# Altium footprint library cypress.PCBLIB: 24 footprints (part 1 of 2)
Each footprint in its own frame and in the unit in brackets; x right, y up, seen from the top. Pads: shape width x height; smd on the part's side, far side on the other; paste and mask are expansions set on the pad; w line width, h text height; cw(c..) or ccw(c..) is an arc to the next point about the centre after c.
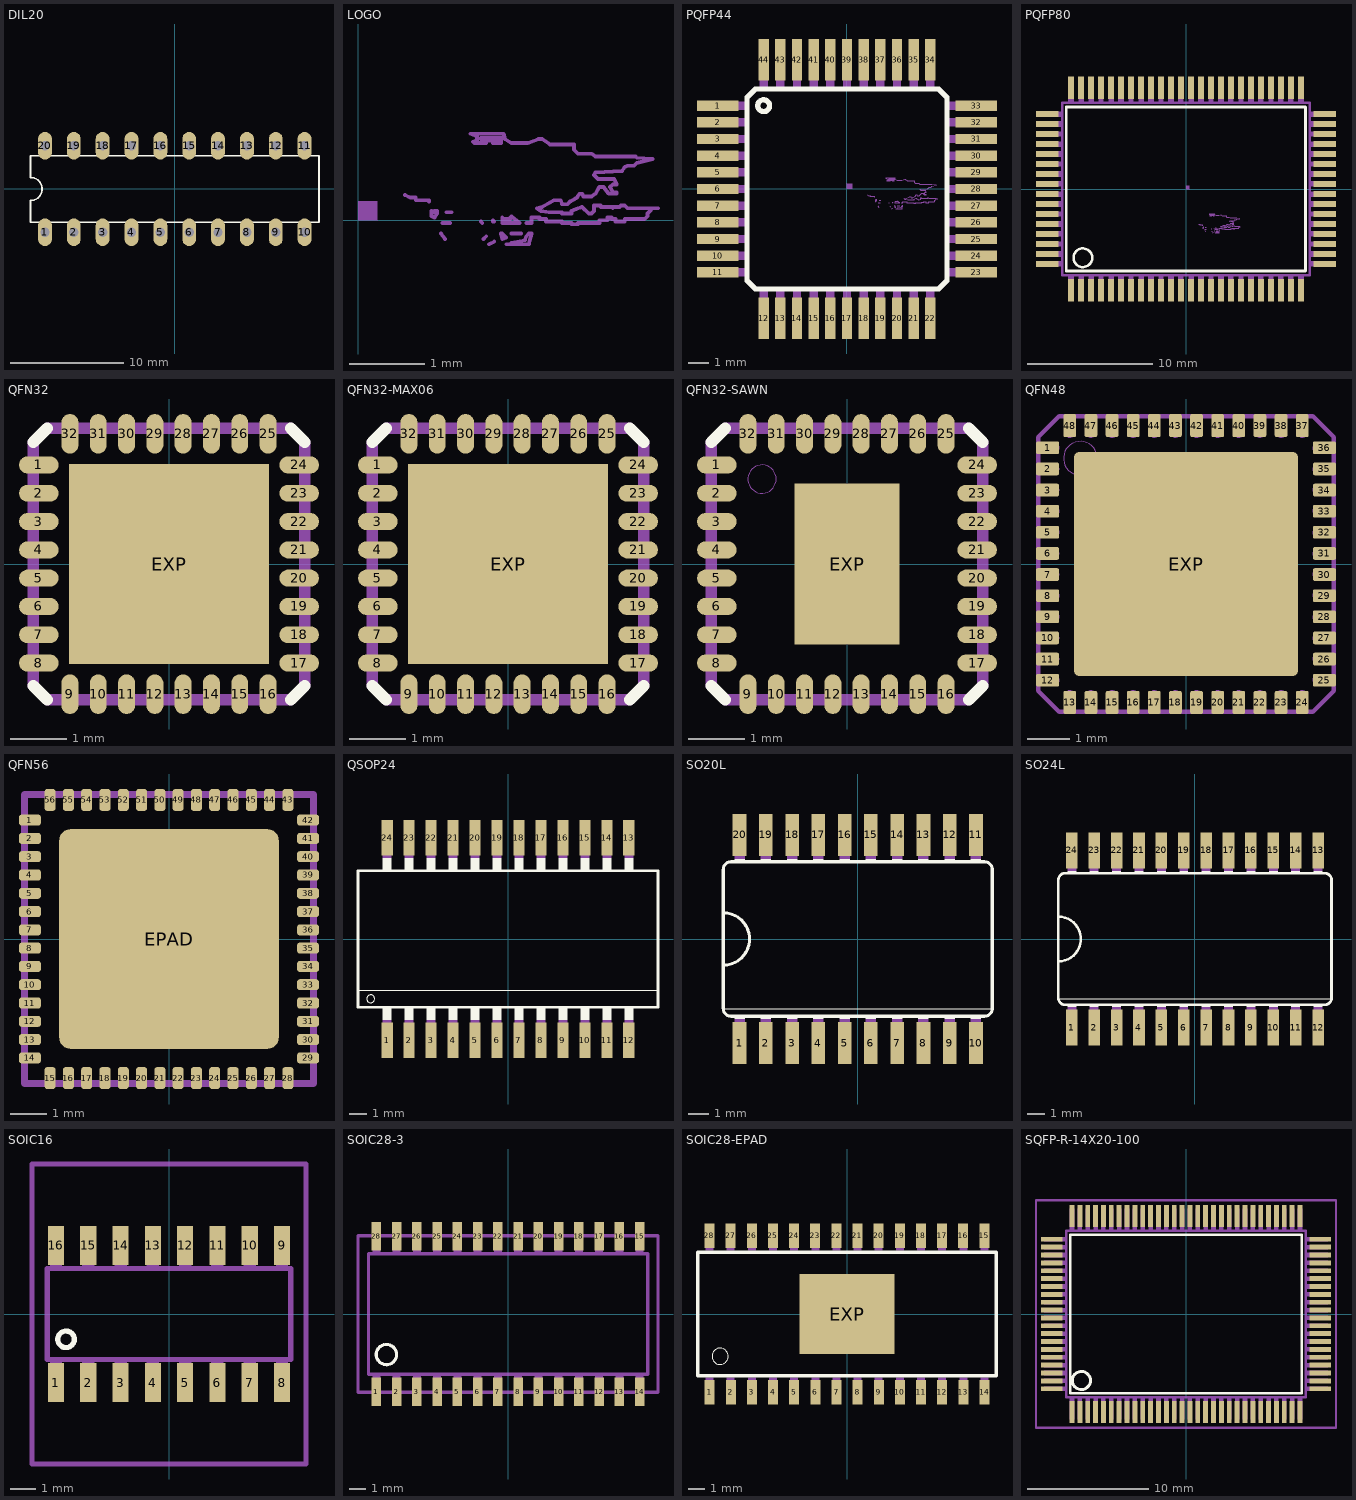
[diagram p0: the footprints below, top view; thin cyan lines are the x and y axes]

## DIL20 [mil]
pads (20):
  oval 48x96 hole 32: 1(-450,-150) 2(-350,-150) 3(-250,-150) 4(-150,-150) 5(-50,-150) 6(50,-150) 7(150,-150) 8(250,-150) 9(350,-150) 10(450,-150) 11(450,150) 12(350,150) 13(250,150) 14(150,150) 15(50,150) 16(-50,150) 17(-150,150) 18(-250,150) 19(-350,150) 20(-450,150)
Top Overlay:
  lines w6: -500,-115 500,-115 500,115 -500,115 -500,40 cw(c-500,0) -500,-40 -500,-115

## LOGO [mm]
Mechanical 16:
  drawing of 164 lines, arcs and shapes, not listed

## PQFP44 [mm]
pads (44):
  rect 2x0.5 smd: 1(-6.2,4) 2(-6.2,3.2) 3(-6.2,2.4) 4(-6.2,1.6) 5(-6.2,0.8) 6(-6.2,0) 7(-6.2,-0.8) 8(-6.2,-1.6) 9(-6.2,-2.4) 10(-6.2,-3.2) 11(-6.2,-4) 23(6.2,-4) 24(6.2,-3.2) 25(6.2,-2.4) 26(6.2,-1.6) 27(6.2,-0.8) 28(6.2,0) 29(6.2,0.8) 30(6.2,1.6) 31(6.2,2.4) 32(6.2,3.2) 33(6.2,4)
  rect 0.5x2 smd: 12(-4,-6.2) 13(-3.2,-6.2) 14(-2.4,-6.2) 15(-1.6,-6.2) 16(-0.8,-6.2) 17(0,-6.2) 18(0.8,-6.2) 19(1.6,-6.2) 20(2.4,-6.2) 21(3.2,-6.2) 22(4,-6.2) 34(4,6.2) 35(3.2,6.2) 36(2.4,6.2) 37(1.6,6.2) 38(0.8,6.2) 39(0,6.2) 40(-0.8,6.2) 41(-1.6,6.2) 42(-2.4,6.2) 43(-3.2,6.2) 44(-4,6.2)
Top Overlay:
  circle w0.254: c-4,4 r0.283
  lines w0.254: -4.8,-4.4 -4.4,-4.8 4.4,-4.8 4.8,-4.4 4.8,4.4 4.4,4.8 -4.4,4.8 -4.8,4.4 -4.8,-4.4
Mechanical 16:
  drawing of 208 lines, arcs and shapes, not listed

## PQFP80 [mm]
pads (80):
  rect 0.5x1.8 smd: 1(-9.2,-8.1) 2(-8.4,-8.1) 3(-7.6,-8.1) 4(-6.8,-8.1) 5(-6,-8.1) 6(-5.2,-8.1) 7(-4.4,-8.1) 8(-3.6,-8.1) 9(-2.8,-8.1) 10(-2,-8.1) 11(-1.2,-8.1) 12(-0.4,-8.1) 13(0.4,-8.1) 14(1.2,-8.1) 15(2,-8.1) 16(2.8,-8.1) 17(3.6,-8.1) 18(4.4,-8.1) 19(5.2,-8.1) 20(6,-8.1) 21(6.8,-8.1) 22(7.6,-8.1) 23(8.4,-8.1) 24(9.2,-8.1) 41(9.2,8.1) 42(8.4,8.1) 43(7.6,8.1) 44(6.8,8.1) 45(6,8.1) 46(5.2,8.1) 47(4.4,8.1) 48(3.6,8.1) 49(2.8,8.1) 50(2,8.1) 51(1.2,8.1) 52(0.4,8.1) 53(-0.4,8.1) 54(-1.2,8.1) 55(-2,8.1) 56(-2.8,8.1) 57(-3.6,8.1) 58(-4.4,8.1) 59(-5.2,8.1) 60(-6,8.1) 61(-6.8,8.1) 62(-7.6,8.1) 63(-8.4,8.1) 64(-9.2,8.1)
  rect 1.8x0.5 smd: 25(11.1,-6) 26(11.1,-5.2) 27(11.1,-4.4) 28(11.1,-3.6) 29(11.1,-2.8) 30(11.1,-2) 31(11.1,-1.2) 32(11.1,-0.4) 33(11.1,0.4) 34(11.1,1.2) 35(11.1,2) 36(11.1,2.8) 37(11.1,3.6) 38(11.1,4.4) 39(11.1,5.2) 40(11.1,6) 65(-11.1,6) 66(-11.1,5.2) 67(-11.1,4.4) 68(-11.1,3.6) 69(-11.1,2.8) 70(-11.1,2) 71(-11.1,1.2) 72(-11.1,0.4) 73(-11.1,-0.4) 74(-11.1,-1.2) 75(-11.1,-2) 76(-11.1,-2.8) 77(-11.1,-3.6) 78(-11.1,-4.4) 79(-11.1,-5.2) 80(-11.1,-6)
Top Overlay:
  circle w0.203: c-8.25,-5.5 r0.75
  lines w0.203: -9.57,-6.56 9.56,-6.56 9.56,6.56 -9.57,6.56 -9.57,-6.56
Mechanical 16:
  drawing of 248 lines, arcs and shapes, not listed

## QFN32 [mm]
pads (33):
  rrect100% 0.7x0.3 smd: 1(-2.3,1.75) 2(-2.3,1.25) 3(-2.3,0.75) 4(-2.3,0.25) 5(-2.3,-0.25) 6(-2.3,-0.75) 7(-2.3,-1.25) 8(-2.3,-1.75) 17(2.3,-1.75) 18(2.3,-1.25) 19(2.3,-0.75) 20(2.3,-0.25) 21(2.3,0.25) 22(2.3,0.75) 23(2.3,1.25) 24(2.3,1.75)
  rrect100% 0.3x0.7 smd: 9(-1.75,-2.3) 10(-1.25,-2.3) 11(-0.75,-2.3) 12(-0.25,-2.3) 13(0.25,-2.3) 14(0.75,-2.3) 15(1.25,-2.3) 16(1.75,-2.3) 25(1.75,2.3) 26(1.25,2.3) 27(0.75,2.3) 28(0.25,2.3) 29(-0.25,2.3) 30(-0.75,2.3) 31(-1.25,2.3) 32(-1.75,2.3)
  rect 3.53x3.53 smd: EXP(0,0)
Top Overlay:
  lines w0.203: -2.4,-2.15 -2.15,-2.4 ; -2.4,2.15 -2.15,2.4 ; 2.15,-2.4 2.4,-2.15 ; 2.15,2.4 2.4,2.15
Top Paste:
  rectangle: -1.65,-1.65 1.65,1.65
  lines w0.25: -2.5,-1.75 -2.1,-1.75 ; -2.5,-1.25 -2.1,-1.25 ; -2.5,-0.75 -2.1,-0.75 ; -2.5,-0.25 -2.1,-0.25 ; -2.5,0.25 -2.1,0.25 ; -2.5,0.75 -2.1,0.75 ; -2.5,1.25 -2.1,1.25 ; -2.5,1.75 -2.1,1.75 ; -1.75,-2.5 -1.75,-2.1 ; -1.75,2.1 -1.75,2.5 ; -1.25,-2.5 -1.25,-2.1 ; -1.25,2.1 -1.25,2.5 ; -0.75,-2.5 -0.75,-2.1 ; -0.75,2.1 -0.75,2.5 ; -0.25,-2.5 -0.25,-2.1 ; -0.25,2.1 -0.25,2.5 ; 0.25,-2.5 0.25,-2.1 ; 0.25,2.1 0.25,2.5 ; 0.75,-2.5 0.75,-2.1 ; 0.75,2.1 0.75,2.5 ; 1.25,-2.5 1.25,-2.1 ; 1.25,2.1 1.25,2.5 ; 1.75,-2.5 1.75,-2.1 ; 1.75,2.1 1.75,2.5 ; 2.1,-1.75 2.5,-1.75 ; 2.1,-1.25 2.5,-1.25 ; 2.1,-0.75 2.5,-0.75 ; 2.1,-0.25 2.5,-0.25 ; 2.1,0.25 2.5,0.25 ; 2.1,0.75 2.5,0.75 ; 2.1,1.25 2.5,1.25 ; 2.1,1.75 2.5,1.75
Top Solder:
  rectangle: -1.8,-1.8 1.8,1.8
  lines w0.4: -2.5,-1.75 -2.1,-1.75 ; -2.5,-1.25 -2.1,-1.25 ; -2.5,-0.75 -2.1,-0.75 ; -2.5,-0.25 -2.1,-0.25 ; -2.5,0.25 -2.1,0.25 ; -2.5,0.75 -2.1,0.75 ; -2.5,1.25 -2.1,1.25 ; -2.5,1.75 -2.1,1.75 ; -1.75,-2.5 -1.75,-2.1 ; -1.75,2.1 -1.75,2.5 ; -1.25,-2.5 -1.25,-2.1 ; -1.25,2.1 -1.25,2.5 ; -0.75,-2.5 -0.75,-2.1 ; -0.75,2.1 -0.75,2.5 ; -0.25,-2.5 -0.25,-2.1 ; -0.25,2.1 -0.25,2.5 ; 0.25,-2.5 0.25,-2.1 ; 0.25,2.1 0.25,2.5 ; 0.75,-2.5 0.75,-2.1 ; 0.75,2.1 0.75,2.5 ; 1.25,-2.5 1.25,-2.1 ; 1.25,2.1 1.25,2.5 ; 1.75,-2.5 1.75,-2.1 ; 1.75,2.1 1.75,2.5 ; 2.1,-1.75 2.5,-1.75 ; 2.1,-1.25 2.5,-1.25 ; 2.1,-0.75 2.5,-0.75 ; 2.1,-0.25 2.5,-0.25 ; 2.1,0.25 2.5,0.25 ; 2.1,0.75 2.5,0.75 ; 2.1,1.25 2.5,1.25 ; 2.1,1.75 2.5,1.75
Mechanical 16:
  circle w0: c-1.5,1.5 r0.25
  lines w0.203: -2.4,-2.15 -2.4,2.15 ; -2.15,-2.4 2.15,-2.4 ; -2.15,2.4 2.15,2.4 ; 2.4,-2.15 2.4,2.15
  lines w0.23: -2.325,-1.75 -2.1,-1.75 ; -2.325,-1.25 -2.1,-1.25 ; -2.325,-0.75 -2.1,-0.75 ; -2.325,-0.25 -2.1,-0.25 ; -2.325,0.25 -2.1,0.25 ; -2.325,0.75 -2.1,0.75 ; -2.325,1.25 -2.1,1.25 ; -2.325,1.75 -2.1,1.75 ; -1.75,-2.325 -1.75,-2.1 ; -1.75,2.1 -1.75,2.325 ; -1.25,-2.325 -1.25,-2.1 ; -1.25,2.1 -1.25,2.325 ; -0.75,-2.325 -0.75,-2.1 ; -0.75,2.1 -0.75,2.325 ; -0.25,-2.325 -0.25,-2.1 ; -0.25,2.1 -0.25,2.325 ; 0.25,-2.325 0.25,-2.1 ; 0.25,2.1 0.25,2.325 ; 0.75,-2.325 0.75,-2.1 ; 0.75,2.1 0.75,2.325 ; 1.25,-2.325 1.25,-2.1 ; 1.25,2.1 1.25,2.325 ; 1.75,-2.325 1.75,-2.1 ; 1.75,2.1 1.75,2.325 ; 2.1,-1.75 2.325,-1.75 ; 2.1,-1.25 2.325,-1.25 ; 2.1,-0.75 2.325,-0.75 ; 2.1,-0.25 2.325,-0.25 ; 2.1,0.25 2.325,0.25 ; 2.1,0.75 2.325,0.75 ; 2.1,1.25 2.325,1.25 ; 2.1,1.75 2.325,1.75

## QFN32-MAX06 [mm]
pads (33):
  rrect100% 0.7x0.3 smd: 1(-2.3,1.75) 2(-2.3,1.25) 3(-2.3,0.75) 4(-2.3,0.25) 5(-2.3,-0.25) 6(-2.3,-0.75) 7(-2.3,-1.25) 8(-2.3,-1.75) 17(2.3,-1.75) 18(2.3,-1.25) 19(2.3,-0.75) 20(2.3,-0.25) 21(2.3,0.25) 22(2.3,0.75) 23(2.3,1.25) 24(2.3,1.75)
  rrect100% 0.3x0.7 smd: 9(-1.75,-2.3) 10(-1.25,-2.3) 11(-0.75,-2.3) 12(-0.25,-2.3) 13(0.25,-2.3) 14(0.75,-2.3) 15(1.25,-2.3) 16(1.75,-2.3) 25(1.75,2.3) 26(1.25,2.3) 27(0.75,2.3) 28(0.25,2.3) 29(-0.25,2.3) 30(-0.75,2.3) 31(-1.25,2.3) 32(-1.75,2.3)
  rect 3.53x3.53 smd: EXP(0,0)
Top Overlay:
  lines w0.203: -2.4,-2.15 -2.15,-2.4 ; -2.4,2.15 -2.15,2.4 ; 2.15,-2.4 2.4,-2.15 ; 2.15,2.4 2.4,2.15
Top Paste:
  region: 0,0 0.254,0 0.254,0.254 0,0.254
  lines w0.1: -1,-0.6 -1,-1.3 ; -1,-0.25 -1,0.25 ; -1,0.55 -1,0.9 ; -0.975,1.075 -0.95,1.1 ; -0.95,-1.65 -0.95,-1.55 -0.85,-1.65 ; -0.925,1.4 -0.9,1.65 ; -0.25,-1.7 -0.55,-1.7 ; -0.15,1.7 -0.7,1.7 ; 0.25,-1.7 0.55,-1.7 ; 0.25,1.7 0.55,1.7 ; 0.85,-1.65 0.95,-1.55 0.95,-1.65 ; 0.85,1.65 0.95,1.55 0.95,1.65 ; 1,-0.6 1,-1.3 ; 1,-0.25 1,0.25 ; 1,0.55 1,1.3 ; -1,-1.3 -1,-1.7 -0.55,-1.7 ; -1,-1.3 ccw(c-0.575,-1.275) -0.55,-1.7 ; -1,0.9 cw(c-0.712,0.881) -0.9,1.1 ccw(c-1.475,1.375) -0.85,1.5 cw(c-0.675,1.525) -0.7,1.7 ; -1,0.9 -1,1.1 ccw(c-1,1.25) -1,1.4 -1,1.7 -0.7,1.7 ; 0.55,-1.7 1,-1.7 1,-1.3 ; 0.55,-1.7 ccw(c0.575,-1.275) 1,-1.3 ; 0.55,1.7 1,1.7 1,1.3 ; 0.55,1.7 cw(c0.575,1.275) 1,1.3 ; -0.8,-1.25 ccw(c-0.55,-1.25) -0.55,-1.5 0.55,-1.5 ccw(c0.55,-1.25) 0.8,-1.25 0.8,1.25 ccw(c0.55,1.25) 0.55,1.5 -0.5,1.5 ccw(c-0.5,1.35) -0.65,1.35 cw(c-1.413,1.306) -0.8,0.85 -0.8,-1.25
  lines w0.25: -2.5,-1.75 -2.1,-1.75 ; -2.5,-1.25 -2.1,-1.25 ; -2.5,-0.75 -2.1,-0.75 ; -2.5,-0.25 -2.1,-0.25 ; -2.5,0.25 -2.1,0.25 ; -2.5,0.75 -2.1,0.75 ; -2.5,1.25 -2.1,1.25 ; -2.5,1.75 -2.1,1.75 ; -1.75,-2.5 -1.75,-2.1 ; -1.75,2.1 -1.75,2.5 ; -1.25,-2.5 -1.25,-2.1 ; -1.25,2.1 -1.25,2.5 ; -0.75,-2.5 -0.75,-2.1 ; -0.75,2.1 -0.75,2.5 ; -0.25,-2.5 -0.25,-2.1 ; -0.25,2.1 -0.25,2.5 ; 0.25,-2.5 0.25,-2.1 ; 0.25,2.1 0.25,2.5 ; 0.75,-2.5 0.75,-2.1 ; 0.75,2.1 0.75,2.5 ; 1.25,-2.5 1.25,-2.1 ; 1.25,2.1 1.25,2.5 ; 1.75,-2.5 1.75,-2.1 ; 1.75,2.1 1.75,2.5 ; 2.1,-1.75 2.5,-1.75 ; 2.1,-1.25 2.5,-1.25 ; 2.1,-0.75 2.5,-0.75 ; 2.1,-0.25 2.5,-0.25 ; 2.1,0.25 2.5,0.25 ; 2.1,0.75 2.5,0.75 ; 2.1,1.25 2.5,1.25 ; 2.1,1.75 2.5,1.75
Top Solder:
  rectangle: -1.1,-1.8 1.1,1.8
  lines w0.4: -2.5,-1.75 -2.1,-1.75 ; -2.5,-1.25 -2.1,-1.25 ; -2.5,-0.75 -2.1,-0.75 ; -2.5,-0.25 -2.1,-0.25 ; -2.5,0.25 -2.1,0.25 ; -2.5,0.75 -2.1,0.75 ; -2.5,1.25 -2.1,1.25 ; -2.5,1.75 -2.1,1.75 ; -1.75,-2.5 -1.75,-2.1 ; -1.75,2.1 -1.75,2.5 ; -1.25,-2.5 -1.25,-2.1 ; -1.25,2.1 -1.25,2.5 ; -0.75,-2.5 -0.75,-2.1 ; -0.75,2.1 -0.75,2.5 ; -0.25,-2.5 -0.25,-2.1 ; -0.25,2.1 -0.25,2.5 ; 0.25,-2.5 0.25,-2.1 ; 0.25,2.1 0.25,2.5 ; 0.75,-2.5 0.75,-2.1 ; 0.75,2.1 0.75,2.5 ; 1.25,-2.5 1.25,-2.1 ; 1.25,2.1 1.25,2.5 ; 1.75,-2.5 1.75,-2.1 ; 1.75,2.1 1.75,2.5 ; 2.1,-1.75 2.5,-1.75 ; 2.1,-1.25 2.5,-1.25 ; 2.1,-0.75 2.5,-0.75 ; 2.1,-0.25 2.5,-0.25 ; 2.1,0.25 2.5,0.25 ; 2.1,0.75 2.5,0.75 ; 2.1,1.25 2.5,1.25 ; 2.1,1.75 2.5,1.75
Mechanical 16:
  circle w0: c-1.5,1.5 r0.25
  lines w0.203: -2.4,-2.15 -2.4,2.15 ; -2.15,-2.4 2.15,-2.4 ; -2.15,2.4 2.15,2.4 ; 2.4,-2.15 2.4,2.15
  lines w0.23: -2.325,-1.75 -2.1,-1.75 ; -2.325,-1.25 -2.1,-1.25 ; -2.325,-0.75 -2.1,-0.75 ; -2.325,-0.25 -2.1,-0.25 ; -2.325,0.25 -2.1,0.25 ; -2.325,0.75 -2.1,0.75 ; -2.325,1.25 -2.1,1.25 ; -2.325,1.75 -2.1,1.75 ; -1.75,-2.325 -1.75,-2.1 ; -1.75,2.1 -1.75,2.325 ; -1.25,-2.325 -1.25,-2.1 ; -1.25,2.1 -1.25,2.325 ; -0.75,-2.325 -0.75,-2.1 ; -0.75,2.1 -0.75,2.325 ; -0.25,-2.325 -0.25,-2.1 ; -0.25,2.1 -0.25,2.325 ; 0.25,-2.325 0.25,-2.1 ; 0.25,2.1 0.25,2.325 ; 0.75,-2.325 0.75,-2.1 ; 0.75,2.1 0.75,2.325 ; 1.25,-2.325 1.25,-2.1 ; 1.25,2.1 1.25,2.325 ; 1.75,-2.325 1.75,-2.1 ; 1.75,2.1 1.75,2.325 ; 2.1,-1.75 2.325,-1.75 ; 2.1,-1.25 2.325,-1.25 ; 2.1,-0.75 2.325,-0.75 ; 2.1,-0.25 2.325,-0.25 ; 2.1,0.25 2.325,0.25 ; 2.1,0.75 2.325,0.75 ; 2.1,1.25 2.325,1.25 ; 2.1,1.75 2.325,1.75

## QFN32-SAWN [mm]
pads (33):
  rrect100% 0.7x0.3 smd: 1(-2.3,1.75) 2(-2.3,1.25) 3(-2.3,0.75) 4(-2.3,0.25) 5(-2.3,-0.25) 6(-2.3,-0.75) 7(-2.3,-1.25) 8(-2.3,-1.75) 17(2.3,-1.75) 18(2.3,-1.25) 19(2.3,-0.75) 20(2.3,-0.25) 21(2.3,0.25) 22(2.3,0.75) 23(2.3,1.25) 24(2.3,1.75)
  rrect100% 0.3x0.7 smd: 9(-1.75,-2.3) 10(-1.25,-2.3) 11(-0.75,-2.3) 12(-0.25,-2.3) 13(0.25,-2.3) 14(0.75,-2.3) 15(1.25,-2.3) 16(1.75,-2.3) 25(1.75,2.3) 26(1.25,2.3) 27(0.75,2.3) 28(0.25,2.3) 29(-0.25,2.3) 30(-0.75,2.3) 31(-1.25,2.3) 32(-1.75,2.3)
  rect 1.85x2.85 smd: EXP(0,0)
Top Overlay:
  lines w0.203: -2.4,-2.15 -2.15,-2.4 ; -2.4,2.15 -2.15,2.4 ; 2.15,-2.4 2.4,-2.15 ; 2.15,2.4 2.4,2.15
Top Paste:
  rectangle: -0.85,-1.35 0.85,1.35
  lines w0.25: -2.5,-1.75 -2.1,-1.75 ; -2.5,-1.25 -2.1,-1.25 ; -2.5,-0.75 -2.1,-0.75 ; -2.5,-0.25 -2.1,-0.25 ; -2.5,0.25 -2.1,0.25 ; -2.5,0.75 -2.1,0.75 ; -2.5,1.25 -2.1,1.25 ; -2.5,1.75 -2.1,1.75 ; -1.75,-2.5 -1.75,-2.1 ; -1.75,2.1 -1.75,2.5 ; -1.25,-2.5 -1.25,-2.1 ; -1.25,2.1 -1.25,2.5 ; -0.75,-2.5 -0.75,-2.1 ; -0.75,2.1 -0.75,2.5 ; -0.25,-2.5 -0.25,-2.1 ; -0.25,2.1 -0.25,2.5 ; 0.25,-2.5 0.25,-2.1 ; 0.25,2.1 0.25,2.5 ; 0.75,-2.5 0.75,-2.1 ; 0.75,2.1 0.75,2.5 ; 1.25,-2.5 1.25,-2.1 ; 1.25,2.1 1.25,2.5 ; 1.75,-2.5 1.75,-2.1 ; 1.75,2.1 1.75,2.5 ; 2.1,-1.75 2.5,-1.75 ; 2.1,-1.25 2.5,-1.25 ; 2.1,-0.75 2.5,-0.75 ; 2.1,-0.25 2.5,-0.25 ; 2.1,0.25 2.5,0.25 ; 2.1,0.75 2.5,0.75 ; 2.1,1.25 2.5,1.25 ; 2.1,1.75 2.5,1.75
Top Solder:
  rectangle: -1,-1.5 1,1.5
  lines w0.4: -2.5,-1.75 -2.1,-1.75 ; -2.5,-1.25 -2.1,-1.25 ; -2.5,-0.75 -2.1,-0.75 ; -2.5,-0.25 -2.1,-0.25 ; -2.5,0.25 -2.1,0.25 ; -2.5,0.75 -2.1,0.75 ; -2.5,1.25 -2.1,1.25 ; -2.5,1.75 -2.1,1.75 ; -1.75,-2.5 -1.75,-2.1 ; -1.75,2.1 -1.75,2.5 ; -1.25,-2.5 -1.25,-2.1 ; -1.25,2.1 -1.25,2.5 ; -0.75,-2.5 -0.75,-2.1 ; -0.75,2.1 -0.75,2.5 ; -0.25,-2.5 -0.25,-2.1 ; -0.25,2.1 -0.25,2.5 ; 0.25,-2.5 0.25,-2.1 ; 0.25,2.1 0.25,2.5 ; 0.75,-2.5 0.75,-2.1 ; 0.75,2.1 0.75,2.5 ; 1.25,-2.5 1.25,-2.1 ; 1.25,2.1 1.25,2.5 ; 1.75,-2.5 1.75,-2.1 ; 1.75,2.1 1.75,2.5 ; 2.1,-1.75 2.5,-1.75 ; 2.1,-1.25 2.5,-1.25 ; 2.1,-0.75 2.5,-0.75 ; 2.1,-0.25 2.5,-0.25 ; 2.1,0.25 2.5,0.25 ; 2.1,0.75 2.5,0.75 ; 2.1,1.25 2.5,1.25 ; 2.1,1.75 2.5,1.75
Mechanical 16:
  circle w0: c-1.5,1.5 r0.25
  lines w0.203: -2.4,-2.15 -2.4,2.15 ; -2.15,-2.4 2.15,-2.4 ; -2.15,2.4 2.15,2.4 ; 2.4,-2.15 2.4,2.15
  lines w0.23: -2.325,-1.75 -2.1,-1.75 ; -2.325,-1.25 -2.1,-1.25 ; -2.325,-0.75 -2.1,-0.75 ; -2.325,-0.25 -2.1,-0.25 ; -2.325,0.25 -2.1,0.25 ; -2.325,0.75 -2.1,0.75 ; -2.325,1.25 -2.1,1.25 ; -2.325,1.75 -2.1,1.75 ; -1.75,-2.325 -1.75,-2.1 ; -1.75,2.1 -1.75,2.325 ; -1.25,-2.325 -1.25,-2.1 ; -1.25,2.1 -1.25,2.325 ; -0.75,-2.325 -0.75,-2.1 ; -0.75,2.1 -0.75,2.325 ; -0.25,-2.325 -0.25,-2.1 ; -0.25,2.1 -0.25,2.325 ; 0.25,-2.325 0.25,-2.1 ; 0.25,2.1 0.25,2.325 ; 0.75,-2.325 0.75,-2.1 ; 0.75,2.1 0.75,2.325 ; 1.25,-2.325 1.25,-2.1 ; 1.25,2.1 1.25,2.325 ; 1.75,-2.325 1.75,-2.1 ; 1.75,2.1 1.75,2.325 ; 2.1,-1.75 2.325,-1.75 ; 2.1,-1.25 2.325,-1.25 ; 2.1,-0.75 2.325,-0.75 ; 2.1,-0.25 2.325,-0.25 ; 2.1,0.25 2.325,0.25 ; 2.1,0.75 2.325,0.75 ; 2.1,1.25 2.325,1.25 ; 2.1,1.75 2.325,1.75

## QFN48 [mil]
pads (49):
  rrect30% 21.65x11.81 smd: 1(-128.94,108.27) 2(-128.94,88.58) 3(-128.94,68.9) 4(-128.94,49.21) 5(-128.94,29.53) 6(-128.94,9.84) 7(-128.94,-9.84) 8(-128.94,-29.53) 9(-128.94,-49.21) 10(-128.94,-68.9) 11(-128.94,-88.58) 12(-128.94,-108.27) 25(128.94,-108.27) 26(128.94,-88.58) 27(128.94,-68.9) 28(128.94,-49.21) 29(128.94,-29.53) 30(128.94,-9.84) 31(128.94,9.84) 32(128.94,29.53) 33(128.94,49.21) 34(128.94,68.9) 35(128.94,88.58) 36(128.94,108.27)
  rrect30% 11.81x21.65 smd: 13(-108.27,-128.94) 14(-88.58,-128.94) 15(-68.9,-128.94) 16(-49.21,-128.94) 17(-29.53,-128.94) 18(-9.84,-128.94) 19(9.84,-128.94) 20(29.53,-128.94) 21(49.21,-128.94) 22(68.9,-128.94) 23(88.58,-128.94) 24(108.27,-128.94) 37(108.27,128.94) 38(88.58,128.94) 39(68.9,128.94) 40(49.21,128.94) 41(29.53,128.94) 42(9.84,128.94) 43(-9.84,128.94) 44(-29.53,128.94) 45(-49.21,128.94) 46(-68.9,128.94) 47(-88.58,128.94) 48(-108.27,128.94)
  rrect5% 209x209 smd: EXP(0,0)
Top Paste:
  drawing of 241 lines, arcs and shapes, not listed
Top Solder:
  drawing of 241 lines, arcs and shapes, not listed
Mechanical 16:
  circle w0: c-122.64,108.27 r4.53
  circle w0: c-122.64,88.58 r4.53
  circle w0: c-122.64,68.9 r4.53
  circle w0: c-122.64,49.21 r4.53
  circle w0: c-122.64,29.53 r4.53
  circle w0: c-122.64,9.84 r4.53
  circle w0: c-122.64,-9.84 r4.53
  circle w0: c-122.64,-29.53 r4.53
  circle w0: c-122.64,-49.21 r4.53
  circle w0: c-122.64,-68.9 r4.53
  circle w0: c-122.64,-88.58 r4.53
  circle w0: c-122.64,-108.27 r4.53
  circle w0: c-108.27,-122.64 r4.53
  circle w0: c-88.58,-122.64 r4.53
  circle w0: c-68.9,-122.64 r4.53
  circle w0: c-49.21,-122.64 r4.53
  circle w0: c-29.53,-122.64 r4.53
  circle w0: c-9.84,-122.64 r4.53
  circle w0: c9.84,-122.64 r4.53
  circle w0: c29.53,-122.64 r4.53
  circle w0: c49.21,-122.64 r4.53
  circle w0: c68.9,-122.64 r4.53
  circle w0: c88.58,-122.64 r4.53
  circle w0: c108.27,-122.64 r4.53
  circle w0: c122.64,-108.27 r4.53
  circle w0: c122.64,-88.58 r4.53
  circle w0: c122.64,-68.9 r4.53
  circle w0: c122.64,-49.21 r4.53
  circle w0: c122.64,-29.53 r4.53
  circle w0: c122.64,-9.84 r4.53
  circle w0: c122.64,9.84 r4.53
  circle w0: c122.64,29.53 r4.53
  circle w0: c122.64,49.21 r4.53
  circle w0: c122.64,68.9 r4.53
  circle w0: c122.64,88.58 r4.53
  circle w0: c122.64,108.27 r4.53
  circle w0: c108.27,122.64 r4.53
  circle w0: c88.58,122.64 r4.53
  circle w0: c68.9,122.64 r4.53
  circle w0: c49.21,122.64 r4.53
  circle w0: c29.53,122.64 r4.53
  circle w0: c9.84,122.64 r4.53
  circle w0: c-9.84,122.64 r4.53
  circle w0: c-29.53,122.64 r4.53
  circle w0: c-49.21,122.64 r4.53
  circle w0: c-68.9,122.64 r4.53
  circle w0: c-88.58,122.64 r4.53
  circle w0: c-108.27,122.64 r4.53
  circle w0: c-98.43,98.43 r15.75
  region: -139.77,112.8 -139.77,103.73 -122.84,103.73 -122.84,112.8
  region: -139.77,93.12 -139.77,84.06 -122.84,84.06 -122.84,93.12
  region: -139.77,73.43 -139.77,64.36 -122.84,64.36 -122.84,73.43
  region: -139.77,53.75 -139.77,44.68 -122.84,44.68 -122.84,53.75
  region: -139.77,34.06 -139.77,24.99 -122.84,24.99 -122.84,34.06
  region: -139.77,14.38 -139.77,5.31 -122.84,5.31 -122.84,14.38
  region: -139.77,-5.31 -139.77,-14.38 -122.84,-14.38 -122.84,-5.31
  region: -139.77,-24.99 -139.77,-34.06 -122.84,-34.06 -122.84,-24.99
  region: -139.77,-44.68 -139.77,-53.75 -122.84,-53.75 -122.84,-44.68
  region: -139.77,-64.36 -139.77,-73.43 -122.84,-73.43 -122.84,-64.36
  region: -139.77,-84.06 -139.77,-93.12 -122.84,-93.12 -122.84,-84.06
  region: -139.77,-103.73 -139.77,-112.8 -122.84,-112.8 -122.84,-103.73
  rectangle: -112.8,-139.76 -103.74,-122.83
  rectangle: -93.11,-139.76 -84.06,-122.83
  rectangle: -73.43,-139.76 -64.37,-122.83
  rectangle: -53.74,-139.76 -44.69,-122.83
  rectangle: -34.06,-139.76 -25,-122.83
  rectangle: -14.37,-139.76 -5.32,-122.83
  rectangle: 5.32,-139.76 14.37,-122.83
  rectangle: 25,-139.76 34.06,-122.83
  rectangle: 44.69,-139.76 53.74,-122.83
  rectangle: 64.37,-139.76 73.43,-122.83
  rectangle: 84.06,-139.76 93.11,-122.83
  rectangle: 103.74,-139.76 112.8,-122.83
  region: 139.77,-112.8 139.77,-103.73 122.84,-103.73 122.84,-112.8
  region: 139.77,-93.12 139.77,-84.06 122.84,-84.06 122.84,-93.12
  region: 139.77,-73.43 139.77,-64.36 122.84,-64.36 122.84,-73.43
  region: 139.77,-53.75 139.77,-44.68 122.84,-44.68 122.84,-53.75
  region: 139.77,-34.06 139.77,-24.99 122.84,-24.99 122.84,-34.06
  region: 139.77,-14.38 139.77,-5.31 122.84,-5.31 122.84,-14.38
  region: 139.77,5.31 139.77,14.38 122.84,14.38 122.84,5.31
  region: 139.77,24.99 139.77,34.06 122.84,34.06 122.84,24.99
  region: 139.77,44.68 139.77,53.75 122.84,53.75 122.84,44.68
  region: 139.77,64.36 139.77,73.43 122.84,73.43 122.84,64.36
  region: 139.77,84.06 139.77,93.12 122.84,93.12 122.84,84.06
  region: 139.77,103.73 139.77,112.8 122.84,112.8 122.84,103.73
  region: 112.8,139.76 103.74,139.76 103.74,122.83 112.8,122.83
  region: 93.11,139.76 84.06,139.76 84.06,122.83 93.11,122.83
  region: 73.43,139.76 64.37,139.76 64.37,122.83 73.43,122.83
  region: 53.74,139.76 44.69,139.76 44.69,122.83 53.74,122.83
  region: 34.06,139.76 25,139.76 25,122.83 34.06,122.83
  region: 14.37,139.76 5.32,139.76 5.32,122.83 14.37,122.83
  region: -5.32,139.76 -14.37,139.76 -14.37,122.83 -5.32,122.83
  region: -25,139.76 -34.06,139.76 -34.06,122.83 -25,122.83
  region: -44.69,139.76 -53.74,139.76 -53.74,122.83 -44.69,122.83
  region: -64.37,139.76 -73.43,139.76 -73.43,122.83 -64.37,122.83
  region: -84.06,139.76 -93.11,139.76 -93.11,122.83 -84.06,122.83
  region: -103.74,139.76 -112.8,139.76 -112.8,122.83 -103.74,122.83
  lines w4: -137.8,-118.11 -118.11,-137.8 118.11,-137.8 137.8,-118.11 137.8,118.11 118.11,137.8 -118.11,137.8 -137.8,118.11 -137.8,-118.11

## QFN56 [mm]
pads (57):
  rrect50% 0.6x0.3 smd: 1(-3.8,3.25) 2(-3.8,2.75) 3(-3.8,2.25) 4(-3.8,1.75) 5(-3.8,1.25) 6(-3.8,0.75) 7(-3.8,0.25) 8(-3.8,-0.25) 9(-3.8,-0.75) 10(-3.8,-1.25) 11(-3.8,-1.75) 12(-3.8,-2.25) 13(-3.8,-2.75) 14(-3.8,-3.25) 29(3.8,-3.25) 30(3.8,-2.75) 31(3.8,-2.25) 32(3.8,-1.75) 33(3.8,-1.25) 34(3.8,-0.75) 35(3.8,-0.25) 36(3.8,0.25) 37(3.8,0.75) 38(3.8,1.25) 39(3.8,1.75) 40(3.8,2.25) 41(3.8,2.75) 42(3.8,3.25)
  rrect50% 0.3x0.6 smd: 15(-3.25,-3.8) 16(-2.75,-3.8) 17(-2.25,-3.8) 18(-1.75,-3.8) 19(-1.25,-3.8) 20(-0.75,-3.8) 21(-0.25,-3.8) 22(0.25,-3.8) 23(0.75,-3.8) 24(1.25,-3.8) 25(1.75,-3.8) 26(2.25,-3.8) 27(2.75,-3.8) 28(3.25,-3.8) 43(3.25,3.8) 44(2.75,3.8) 45(2.25,3.8) 46(1.75,3.8) 47(1.25,3.8) 48(0.75,3.8) 49(0.25,3.8) 50(-0.25,3.8) 51(-0.75,3.8) 52(-1.25,3.8) 53(-1.75,3.8) 54(-2.25,3.8) 55(-2.75,3.8) 56(-3.25,3.8)
  rrect10% 6x6 smd: EPAD(0,0)
Top Solder:
  rectangle: -4.1,3.1 -3.5,3.4
  rectangle: -4.1,2.6 -3.5,2.9
  rectangle: -4.1,2.1 -3.5,2.4
  rectangle: -4.1,1.6 -3.5,1.9
  rectangle: -4.1,1.1 -3.5,1.4
  rectangle: -4.1,0.6 -3.5,0.9
  rectangle: -4.1,0.1 -3.5,0.4
  rectangle: -4.1,-0.4 -3.5,-0.1
  rectangle: -4.1,-0.9 -3.5,-0.6
  rectangle: -4.1,-1.4 -3.5,-1.1
  rectangle: -4.1,-1.9 -3.5,-1.6
  rectangle: -4.1,-2.4 -3.5,-2.1
  rectangle: -4.1,-2.9 -3.5,-2.6
  rectangle: -4.1,-3.4 -3.5,-3.1
  region: -3.1,-4.1 -3.1,-3.5 -3.4,-3.5 -3.4,-4.1
  region: -2.6,-4.1 -2.6,-3.5 -2.9,-3.5 -2.9,-4.1
  region: -2.1,-4.1 -2.1,-3.5 -2.4,-3.5 -2.4,-4.1
  region: -1.6,-4.1 -1.6,-3.5 -1.9,-3.5 -1.9,-4.1
  region: -1.1,-4.1 -1.1,-3.5 -1.4,-3.5 -1.4,-4.1
  region: -0.6,-4.1 -0.6,-3.5 -0.9,-3.5 -0.9,-4.1
  region: -0.1,-4.1 -0.1,-3.5 -0.4,-3.5 -0.4,-4.1
  region: 0.4,-4.1 0.4,-3.5 0.1,-3.5 0.1,-4.1
  region: 0.9,-4.1 0.9,-3.5 0.6,-3.5 0.6,-4.1
  region: 1.4,-4.1 1.4,-3.5 1.1,-3.5 1.1,-4.1
  region: 1.9,-4.1 1.9,-3.5 1.6,-3.5 1.6,-4.1
  region: 2.4,-4.1 2.4,-3.5 2.1,-3.5 2.1,-4.1
  region: 2.9,-4.1 2.9,-3.5 2.6,-3.5 2.6,-4.1
  region: 3.4,-4.1 3.4,-3.5 3.1,-3.5 3.1,-4.1
  region: 4.1,-3.1 3.5,-3.1 3.5,-3.4 4.1,-3.4
  region: 4.1,-2.6 3.5,-2.6 3.5,-2.9 4.1,-2.9
  region: 4.1,-2.1 3.5,-2.1 3.5,-2.4 4.1,-2.4
  region: 4.1,-1.6 3.5,-1.6 3.5,-1.9 4.1,-1.9
  region: 4.1,-1.1 3.5,-1.1 3.5,-1.4 4.1,-1.4
  region: 4.1,-0.6 3.5,-0.6 3.5,-0.9 4.1,-0.9
  region: 4.1,-0.1 3.5,-0.1 3.5,-0.4 4.1,-0.4
  region: 4.1,0.4 3.5,0.4 3.5,0.1 4.1,0.1
  region: 4.1,0.9 3.5,0.9 3.5,0.6 4.1,0.6
  region: 4.1,1.4 3.5,1.4 3.5,1.1 4.1,1.1
  region: 4.1,1.9 3.5,1.9 3.5,1.6 4.1,1.6
  region: 4.1,2.4 3.5,2.4 3.5,2.1 4.1,2.1
  region: 4.1,2.9 3.5,2.9 3.5,2.6 4.1,2.6
  region: 4.1,3.4 3.5,3.4 3.5,3.1 4.1,3.1
  region: 3.1,4.1 3.1,3.5 3.4,3.5 3.4,4.1
  region: 2.6,4.1 2.6,3.5 2.9,3.5 2.9,4.1
  region: 2.1,4.1 2.1,3.5 2.4,3.5 2.4,4.1
  region: 1.6,4.1 1.6,3.5 1.9,3.5 1.9,4.1
  region: 1.1,4.1 1.1,3.5 1.4,3.5 1.4,4.1
  region: 0.6,4.1 0.6,3.5 0.9,3.5 0.9,4.1
  region: 0.1,4.1 0.1,3.5 0.4,3.5 0.4,4.1
  region: -0.4,4.1 -0.4,3.5 -0.1,3.5 -0.1,4.1
  region: -0.9,4.1 -0.9,3.5 -0.6,3.5 -0.6,4.1
  region: -1.4,4.1 -1.4,3.5 -1.1,3.5 -1.1,4.1
  region: -1.9,4.1 -1.9,3.5 -1.6,3.5 -1.6,4.1
  region: -2.4,4.1 -2.4,3.5 -2.1,3.5 -2.1,4.1
  region: -2.9,4.1 -2.9,3.5 -2.6,3.5 -2.6,4.1
  region: -3.4,4.1 -3.4,3.5 -3.1,3.5 -3.1,4.1
  rectangle: -2.95,-2.95 2.95,2.95
Mechanical 16:
  lines w0.203: -3.95,-3.95 3.95,-3.95 3.95,3.95 -3.95,3.95 -3.95,-3.95

## QSOP24 [mil]
pads (24):
  rect 26x80 smd: 1(-275,-230) 2(-225,-230) 3(-175,-230) 4(-125,-230) 5(-75,-230) 6(-25,-230) 7(25,-230) 8(75,-230) 9(125,-230) 10(175,-230) 11(225,-230) 12(275,-230) 13(275,230) 14(225,230) 15(175,230) 16(125,230) 17(75,230) 18(25,230) 19(-25,230) 20(-75,230) 21(-125,230) 22(-175,230) 23(-225,230) 24(-275,230)
Top Overlay:
  circle w0: c-312,-136 r8.94
  rectangle: -285,-184 -265,-155
  rectangle: -235,-184 -215,-155
  rectangle: -185,-184 -165,-155
  rectangle: -135,-184 -115,-155
  rectangle: -85,-184 -65,-155
  rectangle: -35,-184 -15,-155
  rectangle: 15,-184 35,-155
  rectangle: 65,-184 85,-155
  rectangle: -285,155 -265,184
  rectangle: -235,155 -215,184
  rectangle: -185,155 -165,184
  rectangle: -135,155 -115,184
  rectangle: -85,155 -65,184
  rectangle: -35,155 -15,184
  rectangle: 15,155 35,184
  rectangle: 65,155 85,184
  rectangle: 115,155 135,184
  rectangle: 165,155 185,184
  rectangle: 215,155 235,184
  rectangle: 265,155 285,184
  rectangle: 115,-184 135,-155
  rectangle: 165,-184 185,-155
  rectangle: 215,-184 235,-155
  rectangle: 265,-184 285,-155
  lines w2: -341,-116 341,-116
  lines w6: -341,-155 -341,-116 -341,155 341,155 341,-116 341,-155 -341,-155
Mechanical 16:
  rectangle: -285,-242 -265,-184
  rectangle: -235,-242 -215,-184
  rectangle: -185,-242 -165,-184
  rectangle: -135,-242 -115,-184
  rectangle: -85,-242 -65,-184
  rectangle: -35,-242 -15,-184
  rectangle: 15,-242 35,-184
  rectangle: 65,-242 85,-184
  rectangle: -285,184 -265,242
  rectangle: -235,184 -215,242
  rectangle: -185,184 -165,242
  rectangle: -135,184 -115,242
  rectangle: -85,184 -65,242
  rectangle: -35,184 -15,242
  rectangle: 15,184 35,242
  rectangle: 65,184 85,242
  rectangle: 115,184 135,242
  rectangle: 165,184 185,242
  rectangle: 215,184 235,242
  rectangle: 265,184 285,242
  rectangle: 115,-242 135,-184
  rectangle: 165,-242 185,-184
  rectangle: 215,-242 235,-184
  rectangle: 265,-242 285,-184

## SO20L [mil]
pads (20):
  rect 26x80 smd: 1(-225,-198) 2(-175,-198) 3(-125,-198) 4(-75,-198) 5(-25,-198) 6(25,-198) 7(75,-198) 8(125,-198) 9(175,-198) 10(225,-198) 11(225,198) 12(175,198) 13(125,198) 14(75,198) 15(25,198) 16(-25,198) 17(-75,198) 18(-125,198) 19(-175,198) 20(-225,198)
Top Overlay:
  rectangle: -235,-152 -215,-147
  rectangle: -185,-152 -165,-147
  rectangle: -135,-152 -115,-147
  rectangle: -85,-152 -65,-147
  rectangle: -35,-152 -15,-147
  rectangle: 15,-152 35,-147
  rectangle: 65,-152 85,-147
  rectangle: 115,-152 135,-147
  rectangle: -235,147 -215,152
  rectangle: -185,147 -165,152
  rectangle: -135,147 -115,152
  rectangle: -85,147 -65,152
  rectangle: -35,147 -15,152
  rectangle: 15,147 35,152
  rectangle: 65,147 85,152
  rectangle: 115,147 135,152
  rectangle: 165,147 185,152
  rectangle: 215,147 235,152
  rectangle: 165,-152 185,-147
  rectangle: 215,-152 235,-147
  lines w2: -255,-133 255,-133
  lines w6: -256,-50 -256,50 ; -256,-50 -256,-132 ccw(c-241,-132) -241,-147 241,-147 ccw(c241,-132) 256,-132 256,132 ccw(c241,132) 241,147 -241,147 ccw(c-241,132) -256,132 -256,50 ; -256,-50 ccw(c-256,0) -256,50
Mechanical 16:
  rectangle: -235,-210 -215,-152
  rectangle: -185,-210 -165,-152
  rectangle: -135,-210 -115,-152
  rectangle: -85,-210 -65,-152
  rectangle: -35,-210 -15,-152
  rectangle: 15,-210 35,-152
  rectangle: 65,-210 85,-152
  rectangle: 115,-210 135,-152
  rectangle: -235,152 -215,210
  rectangle: -185,152 -165,210
  rectangle: -135,152 -115,210
  rectangle: -85,152 -65,210
  rectangle: -35,152 -15,210
  rectangle: 15,152 35,210
  rectangle: 65,152 85,210
  rectangle: 115,152 135,210
  rectangle: 165,152 185,210
  rectangle: 215,152 235,210
  rectangle: 165,-210 185,-152
  rectangle: 215,-210 235,-152

## SO24L [mil]
pads (24):
  rect 26x80 smd: 1(-275,-198) 2(-225,-198) 3(-175,-198) 4(-125,-198) 5(-75,-198) 6(-25,-198) 7(25,-198) 8(75,-198) 9(125,-198) 10(175,-198) 11(225,-198) 12(275,-198) 13(275,198) 14(225,198) 15(175,198) 16(125,198) 17(75,198) 18(25,198) 19(-25,198) 20(-75,198) 21(-125,198) 22(-175,198) 23(-225,198) 24(-275,198)
Top Overlay:
  rectangle: -285,-152 -265,-147
  rectangle: -235,-152 -215,-147
  rectangle: -185,-152 -165,-147
  rectangle: -135,-152 -115,-147
  rectangle: -85,-152 -65,-147
  rectangle: -35,-152 -15,-147
  rectangle: 15,-152 35,-147
  rectangle: 65,-152 85,-147
  rectangle: -285,147 -265,152
  rectangle: -235,147 -215,152
  rectangle: -185,147 -165,152
  rectangle: -135,147 -115,152
  rectangle: -85,147 -65,152
  rectangle: -35,147 -15,152
  rectangle: 15,147 35,152
  rectangle: 65,147 85,152
  rectangle: 115,147 135,152
  rectangle: 165,147 185,152
  rectangle: 215,147 235,152
  rectangle: 265,147 285,152
  rectangle: 115,-152 135,-147
  rectangle: 165,-152 185,-147
  rectangle: 215,-152 235,-147
  rectangle: 265,-152 285,-147
  lines w2: -305,-133 305,-133
  lines w6: -305,-50 -305,50 ; -305,-50 -305,-132 ccw(c-290,-132) -290,-147 290,-147 ccw(c290,-132) 305,-132 305,132 ccw(c290,132) 290,147 -290,147 ccw(c-290,132) -305,132 -305,50 ; -305,-50 ccw(c-305,0) -305,50
Mechanical 16:
  rectangle: -285,-210 -265,-152
  rectangle: -235,-210 -215,-152
  rectangle: -185,-210 -165,-152
  rectangle: -135,-210 -115,-152
  rectangle: -85,-210 -65,-152
  rectangle: -35,-210 -15,-152
  rectangle: 15,-210 35,-152
  rectangle: 65,-210 85,-152
  rectangle: -285,152 -265,210
  rectangle: -235,152 -215,210
  rectangle: -185,152 -165,210
  rectangle: -135,152 -115,210
  rectangle: -85,152 -65,210
  rectangle: -35,152 -15,210
  rectangle: 15,152 35,210
  rectangle: 65,152 85,210
  rectangle: 115,152 135,210
  rectangle: 165,152 185,210
  rectangle: 215,152 235,210
  rectangle: 265,152 285,210
  rectangle: 115,-210 135,-152
  rectangle: 165,-210 185,-152
  rectangle: 215,-210 235,-152
  rectangle: 265,-210 285,-152

## SOIC16 [mil]
pads (16):
  rect 25x60 smd: 1(-175,-106.1) 2(-125,-106.1) 3(-75,-106.1) 4(-25,-106.1) 5(25,-106.1) 6(75,-106.1) 7(125,-106.1) 8(175,-106.1) 9(175,106.1) 10(125,106.1) 11(75,106.1) 12(25,106.1) 13(-25,106.1) 14(-75,106.1) 15(-125,106.1) 16(-175,106.1)
Top Overlay:
  circle w8: c-159.45,-39.17 r12.82
Mechanical 16:
  rectangle: -184.65,-115 -165.35,-74.61
  rectangle: -134.65,-115 -115.35,-74.61
  rectangle: -84.65,-115 -65.35,-74.61
  rectangle: -34.65,-115 -15.35,-74.61
  rectangle: 15.35,-115 34.65,-74.61
  rectangle: 65.35,-115 84.65,-74.61
  rectangle: 115.35,-115 134.65,-74.61
  rectangle: 165.35,-115 184.65,-74.61
  rectangle: 165.35,74.61 184.65,115
  rectangle: 115.35,74.61 134.65,115
  rectangle: 65.35,74.61 84.65,115
  rectangle: 15.35,74.61 34.65,115
  rectangle: -34.65,74.61 -15.35,115
  rectangle: -84.65,74.61 -65.35,115
  rectangle: -134.65,74.61 -115.35,115
  rectangle: -184.65,74.61 -165.35,115
  lines w8: -188.58,-70.67 188.58,-70.67 188.58,70.67 -188.58,70.67 -188.58,-70.67
Mechanical 27:
  lines w7.87: -212.4,-232.28 212.4,-232.28 212.4,232.28 -212.4,232.28 -212.4,-232.28

## SOIC28-3 [mm]
pads (28):
  rect 0.6x1.8 smd: 1(-8.255,-4.87) 2(-6.985,-4.87) 3(-5.715,-4.87) 4(-4.445,-4.87) 5(-3.175,-4.87) 6(-1.905,-4.87) 7(-0.635,-4.87) 8(0.635,-4.87) 9(1.905,-4.87) 10(3.175,-4.87) 11(4.445,-4.87) 12(5.715,-4.87) 13(6.985,-4.87) 14(8.255,-4.87) 15(8.255,4.87) 16(6.985,4.87) 17(5.715,4.87) 18(4.445,4.87) 19(3.175,4.87) 20(1.905,4.87) 21(0.635,4.87) 22(-0.635,4.87) 23(-1.905,4.87) 24(-3.175,4.87) 25(-4.445,4.87) 26(-5.715,4.87) 27(-6.985,4.87) 28(-8.255,4.87)
Top Overlay:
  circle w0.203: c-7.62,-2.54 r0.635
Mechanical 16:
  rectangle: -8.505,-5.2 -8.005,-3.78
  rectangle: -7.235,-5.2 -6.735,-3.78
  rectangle: -5.965,-5.2 -5.465,-3.78
  rectangle: -4.695,-5.2 -4.195,-3.78
  rectangle: -3.425,-5.2 -2.925,-3.78
  rectangle: -2.155,-5.2 -1.655,-3.78
  rectangle: -0.885,-5.2 -0.385,-3.78
  rectangle: 0.385,-5.2 0.885,-3.78
  rectangle: 1.655,-5.2 2.155,-3.78
  rectangle: 2.925,-5.2 3.425,-3.78
  rectangle: 4.195,-5.2 4.695,-3.78
  rectangle: 5.465,-5.2 5.965,-3.78
  rectangle: 6.735,-5.2 7.235,-3.78
  rectangle: 8.005,-5.2 8.505,-3.78
  rectangle: 8.005,3.78 8.505,5.2
  rectangle: 6.735,3.78 7.235,5.2
  rectangle: 5.465,3.78 5.965,5.2
  rectangle: 4.195,3.78 4.695,5.2
  rectangle: 2.925,3.78 3.425,5.2
  rectangle: 1.655,3.78 2.155,5.2
  rectangle: 0.385,3.78 0.885,5.2
  rectangle: -0.885,3.78 -0.385,5.2
  rectangle: -2.155,3.78 -1.655,5.2
  rectangle: -3.425,3.78 -2.925,5.2
  rectangle: -4.695,3.78 -4.195,5.2
  rectangle: -5.965,3.78 -5.465,5.2
  rectangle: -7.235,3.78 -6.735,5.2
  rectangle: -8.505,3.78 -8.005,5.2
  lines w0.203: -8.745,-3.77 8.76,-3.77 8.76,3.77 -8.745,3.77 -8.745,-3.77
Mechanical 27:
  lines w0.2: -9.4,-4.9 -9.4,4.9 9.4,4.9 9.4,-4.9 -9.4,-4.9

## SOIC28-EPAD [mm]
pads (29):
  rect 0.6x1.5 smd: 1(-8.25,-4.7) 2(-6.98,-4.7) 3(-5.71,-4.7) 4(-4.44,-4.7) 5(-3.17,-4.7) 6(-1.9,-4.7) 7(-0.63,-4.7) 8(0.64,-4.7) 9(1.91,-4.7) 10(3.18,-4.7) 11(4.45,-4.7) 12(5.72,-4.7) 13(6.99,-4.7) 14(8.26,-4.7) 15(8.25,4.7) 16(6.98,4.7) 17(5.71,4.7) 18(4.44,4.7) 19(3.17,4.7) 20(1.9,4.7) 21(0.63,4.7) 22(-0.64,4.7) 23(-1.91,4.7) 24(-3.18,4.7) 25(-4.45,4.7) 26(-5.72,4.7) 27(-6.99,4.7) 28(-8.26,4.7)
  rect 5.715x4.826 smd: EXP(0,0)
Top Overlay:
  circle w0: c-7.62,-2.54 r0.49
  lines w0.203: -8.955,-3.71 8.955,-3.71 8.955,3.71 -8.955,3.71 -8.955,-3.71
Top Paste:
  rectangle: -2.79,-2.285 2.79,2.285
Top Solder:
  rectangle: -2.855,-2.41 2.855,2.41
Mechanical 16:
  rectangle: -8.495,-5.32 -8.015,-3.81
  rectangle: -7.225,-5.32 -6.745,-3.81
  rectangle: -5.955,-5.32 -5.475,-3.81
  rectangle: -4.685,-5.32 -4.205,-3.81
  rectangle: -3.415,-5.32 -2.935,-3.81
  rectangle: -2.145,-5.32 -1.665,-3.81
  rectangle: -0.875,-5.32 -0.395,-3.81
  rectangle: 0.395,-5.32 0.875,-3.81
  rectangle: 1.665,-5.32 2.145,-3.81
  rectangle: 2.935,-5.32 3.415,-3.81
  rectangle: 4.205,-5.32 4.685,-3.81
  rectangle: 5.475,-5.32 5.955,-3.81
  rectangle: 6.745,-5.32 7.225,-3.81
  rectangle: 8.015,-5.32 8.495,-3.81
  region: 8.495,5.32 8.015,5.32 8.015,3.81 8.495,3.81
  region: 7.225,5.32 6.745,5.32 6.745,3.81 7.225,3.81
  region: 5.955,5.32 5.475,5.32 5.475,3.81 5.955,3.81
  region: 4.685,5.32 4.205,5.32 4.205,3.81 4.685,3.81
  region: 3.415,5.32 2.935,5.32 2.935,3.81 3.415,3.81
  region: 2.145,5.32 1.665,5.32 1.665,3.81 2.145,3.81
  region: 0.875,5.32 0.395,5.32 0.395,3.81 0.875,3.81
  region: -0.395,5.32 -0.875,5.32 -0.875,3.81 -0.395,3.81
  region: -1.665,5.32 -2.145,5.32 -2.145,3.81 -1.665,3.81
  region: -2.935,5.32 -3.415,5.32 -3.415,3.81 -2.935,3.81
  region: -4.205,5.32 -4.685,5.32 -4.685,3.81 -4.205,3.81
  region: -5.475,5.32 -5.955,5.32 -5.955,3.81 -5.475,3.81
  region: -6.745,5.32 -7.225,5.32 -7.225,3.81 -6.745,3.81
  region: -8.015,5.32 -8.495,5.32 -8.495,3.81 -8.015,3.81

## SQFP-R-14X20-100 [mm]
pads (100):
  rect 0.4x1.8 smd: 1(-9.425,-8.1) 2(-8.775,-8.1) 3(-8.125,-8.1) 4(-7.475,-8.1) 5(-6.825,-8.1) 6(-6.175,-8.1) 7(-5.525,-8.1) 8(-4.875,-8.1) 9(-4.225,-8.1) 10(-3.575,-8.1) 11(-2.925,-8.1) 12(-2.275,-8.1) 13(-1.625,-8.1) 14(-0.975,-8.1) 15(-0.325,-8.1) 16(0.325,-8.1) 17(0.975,-8.1) 18(1.625,-8.1) 19(2.275,-8.1) 20(2.925,-8.1) 21(3.575,-8.1) 22(4.225,-8.1) 23(4.875,-8.1) 24(5.525,-8.1) 25(6.175,-8.1) 26(6.825,-8.1) 27(7.475,-8.1) 28(8.125,-8.1) 29(8.775,-8.1) 30(9.425,-8.1) 51(9.425,8.1) 52(8.775,8.1) 53(8.125,8.1) 54(7.475,8.1) 55(6.825,8.1) 56(6.175,8.1) 57(5.525,8.1) 58(4.875,8.1) 59(4.225,8.1) 60(3.575,8.1) 61(2.925,8.1) 62(2.275,8.1) 63(1.625,8.1) 64(0.975,8.1) 65(0.325,8.1) 66(-0.325,8.1) 67(-0.975,8.1) 68(-1.625,8.1) 69(-2.275,8.1) 70(-2.925,8.1) 71(-3.575,8.1) 72(-4.225,8.1) 73(-4.875,8.1) 74(-5.525,8.1) 75(-6.175,8.1) 76(-6.825,8.1) 77(-7.475,8.1) 78(-8.125,8.1) 79(-8.775,8.1) 80(-9.425,8.1)
  rect 1.8x0.4 smd: 31(11.1,-6.175) 32(11.1,-5.525) 33(11.1,-4.875) 34(11.1,-4.225) 35(11.1,-3.575) 36(11.1,-2.925) 37(11.1,-2.275) 38(11.1,-1.625) 39(11.1,-0.975) 40(11.1,-0.325) 41(11.1,0.325) 42(11.1,0.975) 43(11.1,1.625) 44(11.1,2.275) 45(11.1,2.925) 46(11.1,3.575) 47(11.1,4.225) 48(11.1,4.875) 49(11.1,5.525) 50(11.1,6.175) 81(-11.1,6.175) 82(-11.1,5.525) 83(-11.1,4.875) 84(-11.1,4.225) 85(-11.1,3.575) 86(-11.1,2.925) 87(-11.1,2.275) 88(-11.1,1.625) 89(-11.1,0.975) 90(-11.1,0.325) 91(-11.1,-0.325) 92(-11.1,-0.975) 93(-11.1,-1.625) 94(-11.1,-2.275) 95(-11.1,-2.925) 96(-11.1,-3.575) 97(-11.1,-4.225) 98(-11.1,-4.875) 99(-11.1,-5.525) 100(-11.1,-6.175)
Top Overlay:
  circle w0.254: c-8.65,-5.5 r0.75
  lines w0.203: -9.57,-6.56 9.56,-6.56 9.56,6.56 -9.57,6.56 -9.57,-6.56
Mechanical 16:
  rectangle: -9.615,-8.72 -9.235,-6.95
  rectangle: 9.95,-6.365 11.72,-5.985
  rectangle: -8.965,-8.72 -8.585,-6.95
  rectangle: -8.315,-8.72 -7.935,-6.95
  rectangle: -7.665,-8.72 -7.285,-6.95
  rectangle: -7.015,-8.72 -6.635,-6.95
  rectangle: -6.365,-8.72 -5.985,-6.95
  rectangle: -5.715,-8.72 -5.335,-6.95
  rectangle: -5.065,-8.72 -4.685,-6.95
  rectangle: -4.415,-8.72 -4.035,-6.95
  rectangle: -3.765,-8.72 -3.385,-6.95
  rectangle: -3.115,-8.72 -2.735,-6.95
  rectangle: -2.465,-8.72 -2.085,-6.95
  rectangle: -1.815,-8.72 -1.435,-6.95
  rectangle: -1.165,-8.72 -0.785,-6.95
  rectangle: -0.515,-8.72 -0.135,-6.95
  rectangle: 0.135,-8.72 0.515,-6.95
  rectangle: 0.785,-8.72 1.165,-6.95
  rectangle: 1.435,-8.72 1.815,-6.95
  rectangle: 2.085,-8.72 2.465,-6.95
  rectangle: 2.735,-8.72 3.115,-6.95
  rectangle: 3.385,-8.72 3.765,-6.95
  rectangle: 4.035,-8.72 4.415,-6.95
  rectangle: 4.685,-8.72 5.065,-6.95
  rectangle: 5.335,-8.72 5.715,-6.95
  rectangle: 5.985,-8.72 6.365,-6.95
  rectangle: 6.635,-8.72 7.015,-6.95
  rectangle: 7.285,-8.72 7.665,-6.95
  rectangle: 7.935,-8.72 8.315,-6.95
  rectangle: 8.585,-8.72 8.965,-6.95
  rectangle: 9.235,-8.72 9.615,-6.95
  rectangle: 9.95,-5.715 11.72,-5.335
  rectangle: 9.95,-5.065 11.72,-4.685
  rectangle: 9.95,-4.415 11.72,-4.035
  rectangle: 9.95,-3.765 11.72,-3.385
  rectangle: 9.95,-3.115 11.72,-2.735
  rectangle: 9.95,-2.465 11.72,-2.085
  rectangle: 9.95,-1.815 11.72,-1.435
  rectangle: 9.95,-1.165 11.72,-0.785
  rectangle: 9.95,-0.515 11.72,-0.135
  rectangle: 9.95,0.135 11.72,0.515
  rectangle: 9.95,0.785 11.72,1.165
  rectangle: 9.95,1.435 11.72,1.815
  rectangle: 9.95,2.085 11.72,2.465
  rectangle: 9.95,2.735 11.72,3.115
  rectangle: 9.95,3.385 11.72,3.765
  rectangle: 9.95,4.035 11.72,4.415
  rectangle: 9.95,4.685 11.72,5.065
  rectangle: 9.95,5.335 11.72,5.715
  rectangle: 9.95,5.985 11.72,6.365
  rectangle: 9.235,6.95 9.615,8.72
  rectangle: 8.585,6.95 8.965,8.72
  rectangle: 7.935,6.95 8.315,8.72
  rectangle: 7.285,6.95 7.665,8.72
  rectangle: 6.635,6.95 7.015,8.72
  rectangle: 5.985,6.95 6.365,8.72
  rectangle: 5.335,6.95 5.715,8.72
  rectangle: 4.685,6.95 5.065,8.72
  rectangle: 4.035,6.95 4.415,8.72
  rectangle: 3.385,6.95 3.765,8.72
  rectangle: 2.735,6.95 3.115,8.72
  rectangle: 2.085,6.95 2.465,8.72
  rectangle: 1.435,6.95 1.815,8.72
  rectangle: 0.785,6.95 1.165,8.72
  rectangle: 0.135,6.95 0.515,8.72
  rectangle: -0.515,6.95 -0.135,8.72
  rectangle: -1.165,6.95 -0.785,8.72
  rectangle: -1.815,6.95 -1.435,8.72
  rectangle: -2.465,6.95 -2.085,8.72
  rectangle: -3.115,6.95 -2.735,8.72
  rectangle: -3.765,6.95 -3.385,8.72
  rectangle: -4.415,6.95 -4.035,8.72
  rectangle: -5.065,6.95 -4.685,8.72
  rectangle: -5.715,6.95 -5.335,8.72
  rectangle: -6.365,6.95 -5.985,8.72
  rectangle: -7.015,6.95 -6.635,8.72
  rectangle: -7.665,6.95 -7.285,8.72
  rectangle: -8.315,6.95 -7.935,8.72
  rectangle: -8.965,6.95 -8.585,8.72
  rectangle: -9.615,6.95 -9.235,8.72
  rectangle: -11.72,5.985 -9.95,6.365
  rectangle: -11.72,5.335 -9.95,5.715
  rectangle: -11.72,4.685 -9.95,5.065
  rectangle: -11.72,4.035 -9.95,4.415
  rectangle: -11.72,3.385 -9.95,3.765
  rectangle: -11.72,2.735 -9.95,3.115
  rectangle: -11.72,2.085 -9.95,2.465
  rectangle: -11.72,1.435 -9.95,1.815
  rectangle: -11.72,0.785 -9.95,1.165
  rectangle: -11.72,0.135 -9.95,0.515
  rectangle: -11.72,-0.515 -9.95,-0.135
  rectangle: -11.72,-1.165 -9.95,-0.785
  rectangle: -11.72,-1.815 -9.95,-1.435
  rectangle: -11.72,-2.465 -9.95,-2.085
  rectangle: -11.72,-3.115 -9.95,-2.735
  rectangle: -11.72,-3.765 -9.95,-3.385
  rectangle: -11.72,-4.415 -9.95,-4.035
  rectangle: -11.72,-5.065 -9.95,-4.685
  rectangle: -11.72,-5.715 -9.95,-5.335
  rectangle: -11.72,-6.365 -9.95,-5.985
  lines w0.203: -9.9,-6.9 9.9,-6.9 9.9,6.9 -9.9,6.9 -9.9,-6.9
Mechanical 27:
  lines w0.2: -12.4,-9.4 -12.4,9.4 12.4,9.4 12.4,-9.4 -12.4,-9.4